# Altium schematic symbol library Connector.SchLib: 365 symbols (part 4 of 4)
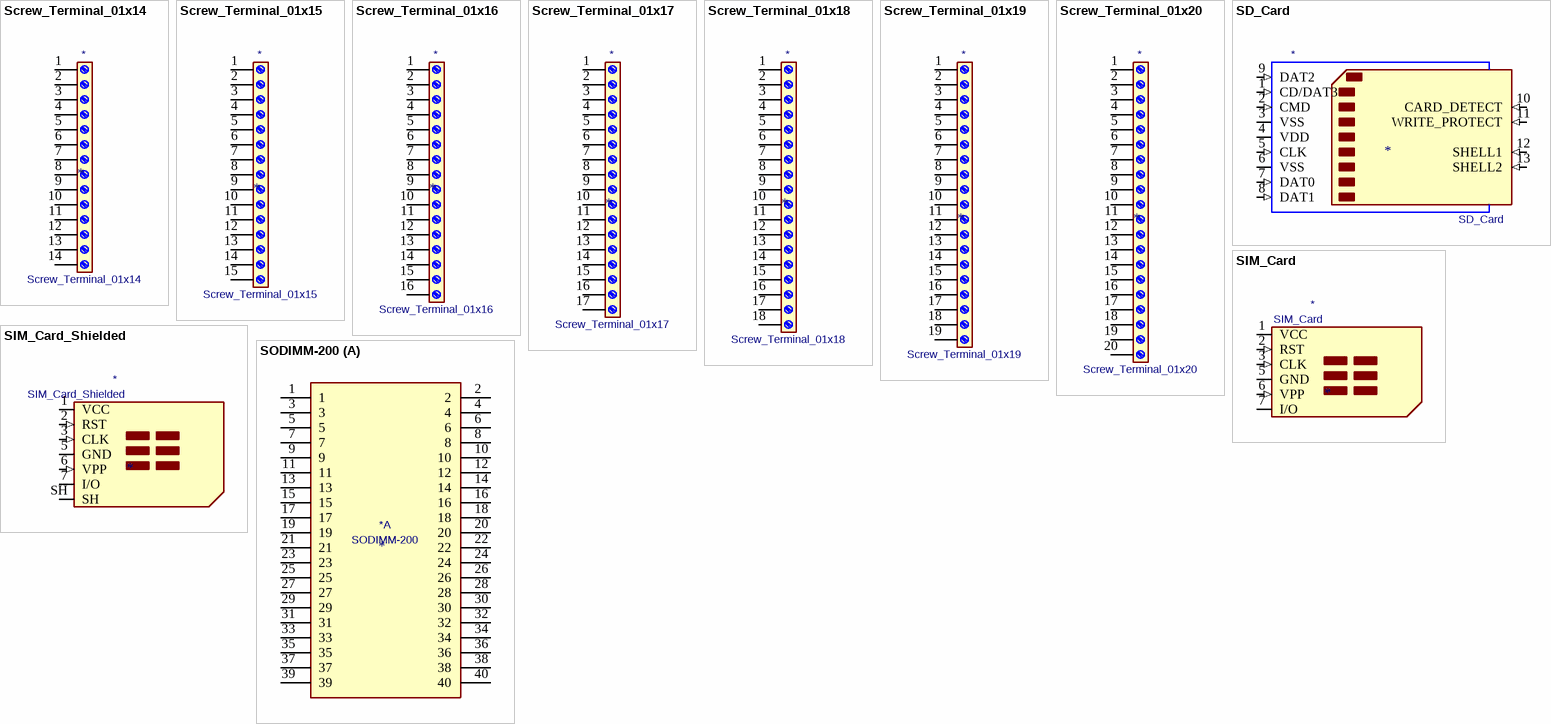
[diagram p17: symbols Screw_Terminal_01x14 to SODIMM-200]

## Screw_Terminal_01x18
designator *  value Screw_Terminal_01x18
ki_keywords: screw terminal; ki_description: Generic screw terminal, single row, 01x18, script generated (kicad-library-utils/schlib/autogen/connector/); ki_fp_filters: TerminalBlock*:*; Supplier: ~
pins: 1 Pin_1, 2 Pin_2, 3 Pin_3, 4 Pin_4, 5 Pin_5, 6 Pin_6, 7 Pin_7, 8 Pin_8, 9 Pin_9, 10 Pin_10, 11 Pin_11, 12 Pin_12, 13 Pin_13, 14 Pin_14, 15 Pin_15, 16 Pin_16, 17 Pin_17, 18 Pin_18

## Screw_Terminal_01x19
designator *  value Screw_Terminal_01x19
ki_keywords: screw terminal; ki_description: Generic screw terminal, single row, 01x19, script generated (kicad-library-utils/schlib/autogen/connector/); ki_fp_filters: TerminalBlock*:*; Supplier: ~
pins: 1 Pin_1, 2 Pin_2, 3 Pin_3, 4 Pin_4, 5 Pin_5, 6 Pin_6, 7 Pin_7, 8 Pin_8, 9 Pin_9, 10 Pin_10, 11 Pin_11, 12 Pin_12, 13 Pin_13, 14 Pin_14, 15 Pin_15, 16 Pin_16, 17 Pin_17, 18 Pin_18, 19 Pin_19

## Screw_Terminal_01x20
designator *  value Screw_Terminal_01x20
ki_keywords: screw terminal; ki_description: Generic screw terminal, single row, 01x20, script generated (kicad-library-utils/schlib/autogen/connector/); ki_fp_filters: TerminalBlock*:*; Supplier: ~
pins: 1 Pin_1, 2 Pin_2, 3 Pin_3, 4 Pin_4, 5 Pin_5, 6 Pin_6, 7 Pin_7, 8 Pin_8, 9 Pin_9, 10 Pin_10, 11 Pin_11, 12 Pin_12, 13 Pin_13, 14 Pin_14, 15 Pin_15, 16 Pin_16, 17 Pin_17, 18 Pin_18, 19 Pin_19, 20 Pin_20

## SD_Card
designator *  value SD_Card
ki_keywords: connector SD; ki_description: SD Card Reader; ki_fp_filters: SD*; Supplier: http://portal.fciconnect.com/Comergent//fci/drawing/10067847.pdf
pins: 1 CD/DAT3 (in), 2 CMD (in), 3 VSS (power), 4 VDD (power), 5 CLK (in), 6 VSS (power), 7 DAT0 (in), 8 DAT1 (in), 9 DAT2 (in), 10 CARD_DETECT (in), 11 WRITE_PROTECT (in), 12 SHELL1 (in), 13 SHELL2 (in)

## SIM_Card
designator *  value SIM_Card
ki_keywords: SIM card UICC; ki_description: SIM Card; ki_fp_filters: *SIM*Card*Holder*; Supplier: ~
pins: 1 VCC (power), 2 RST (in), 3 CLK (in), 5 GND (power), 6 VPP (in), 7 I/O (io)

## SIM_Card_Shielded
designator *  value SIM_Card_Shielded
ki_keywords: SIM card UICC; ki_description: SIM Card; ki_fp_filters: *SIM*Card*Holder*; Supplier: ~
pins: 1 VCC (power), 2 RST (in), 3 CLK (in), 5 GND (power), 6 VPP (in), 7 I/O (io), SH

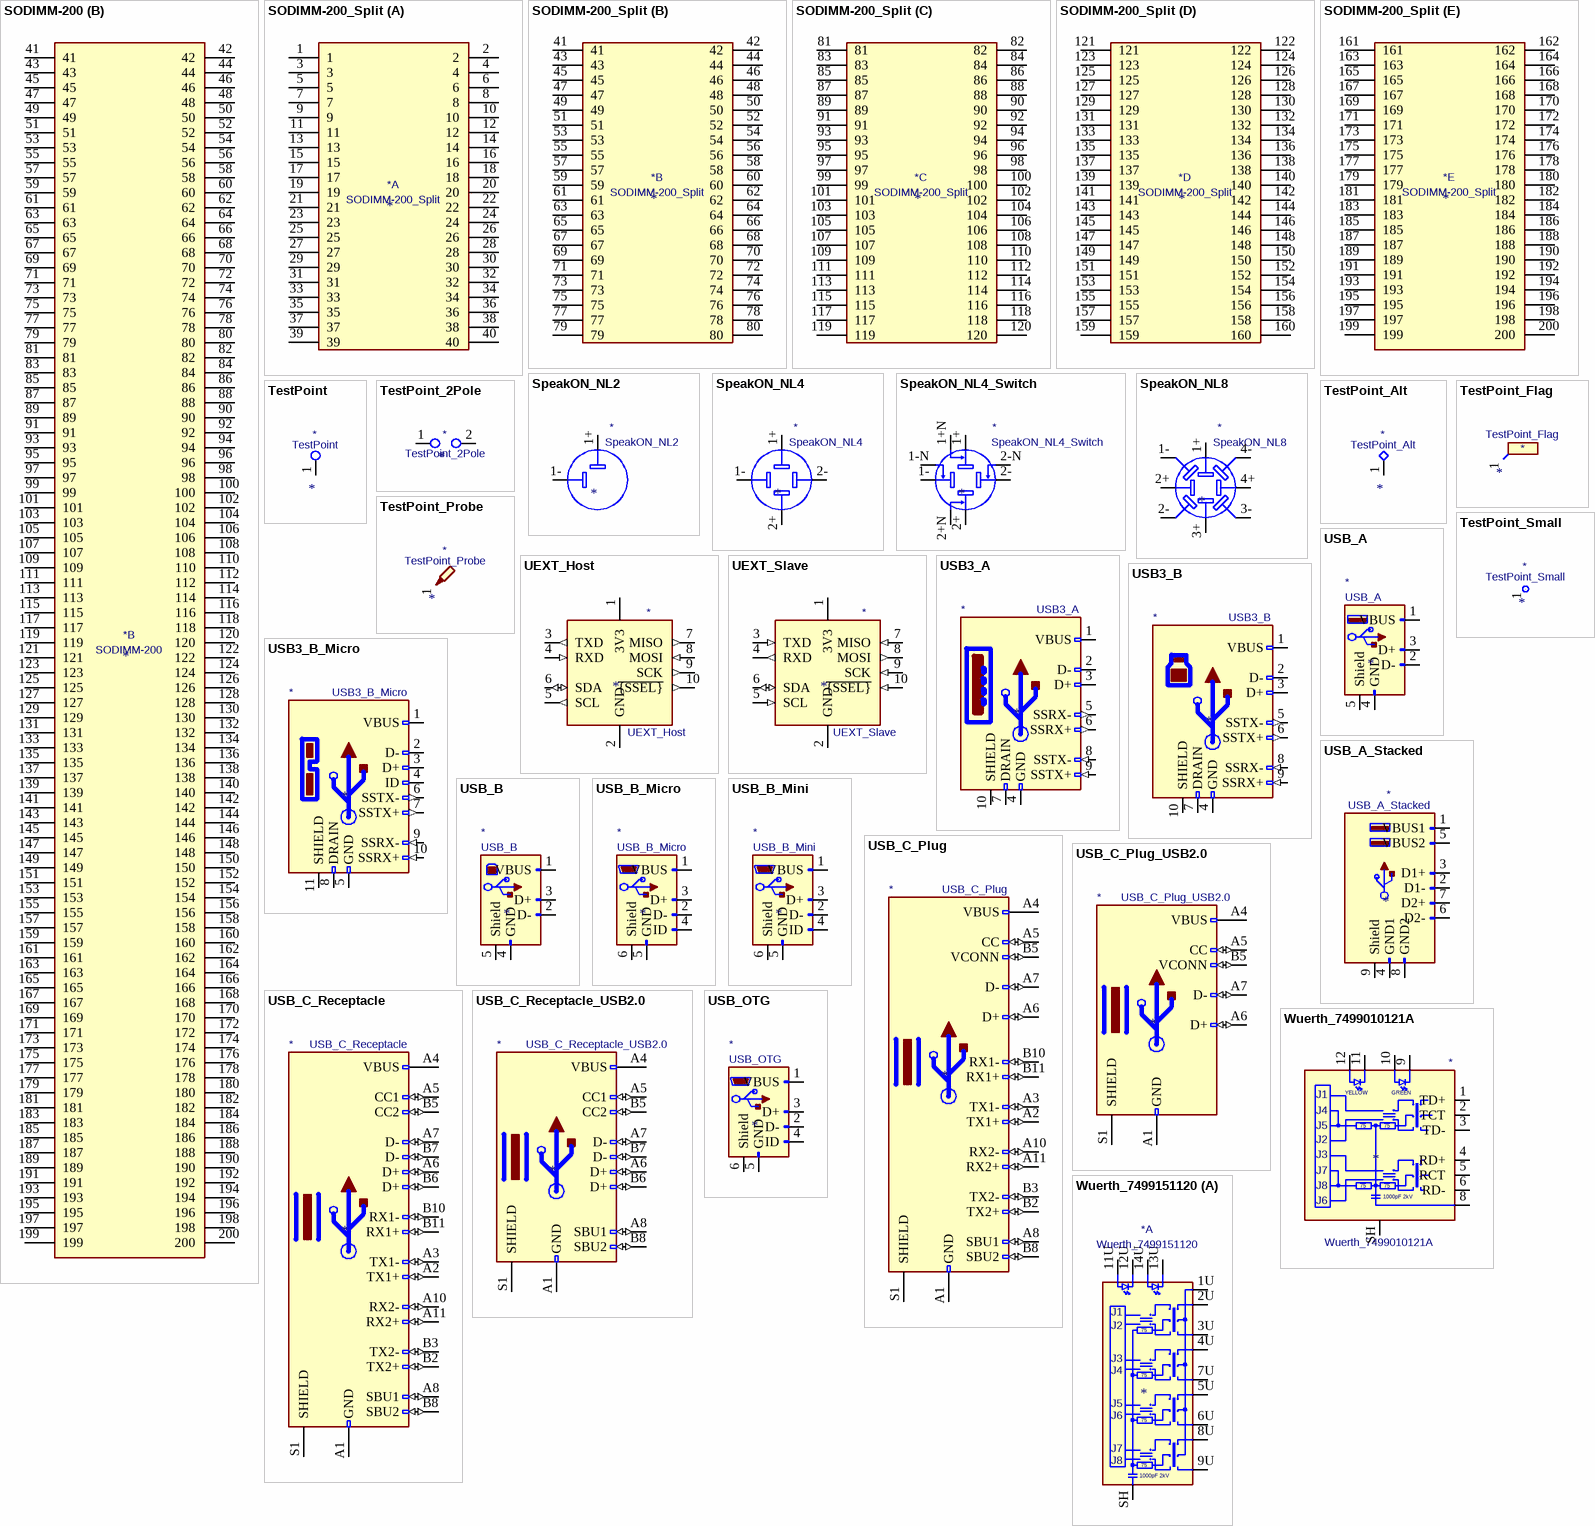
[diagram p13: symbols SODIMM-200 to Wuerth_7499151120]

## SODIMM-200
designator *  value SODIMM-200
ki_keywords: SODIMM SO-DIMM DDR1 DDR2; ki_description: SODIMM 200 Pin socket; ki_fp_filters: *SODIMM*; Supplier: ~
part A pins: 1, 2, 3, 4, 5, 6, 7, 8, 9, 10, 11, 12, 13, 14, 15, 16, 17, 18, 19, 20, 21, 22, 23, 24, 25, 26, 27, 28, 29, 30, 31, 32, 33, 34, 35, 36, 37, 38, 39, 40
part B pins: 41, 42, 43, 44, 45, 46, 47, 48, 49, 50, 51, 52, 53, 54, 55, 56, 57, 58, 59, 60, 61, 62, 63, 64, 65, 66, 67, 68, 69, 70, 71, 72, 73, 74, 75, 76, 77, 78, 79, 80, 81, 82, 83, 84, 85, 86, 87, 88, 89, 90, 91, 92, 93, 94, 95, 96, 97, 98, 99, 100, 101, 102, 103, 104, 105, 106, 107, 108, 109, 110, 111, 112, 113, 114, 115, 116, 117, 118, 119, 120, 121, 122, 123, 124, 125, 126, 127, 128, 129, 130, 131, 132, 133, 134, 135, 136, 137, 138, 139, 140, 141, 142, 143, 144, 145, 146, 147, 148, 149, 150, 151, 152, 153, 154, 155, 156, 157, 158, 159, 160, 161, 162, 163, 164, 165, 166, 167, 168, 169, 170, 171, 172, 173, 174, 175, 176, 177, 178, 179, 180, 181, 182, 183, 184, 185, 186, 187, 188, 189, 190, 191, 192, 193, 194, 195, 196, 197, 198, 199, 200

## SODIMM-200_Split
designator *  value SODIMM-200_Split
ki_keywords: SODIMM SO-DIMM DDR1 DDR2; ki_description: SODIMM 200 Pin socket; ki_fp_filters: *SODIMM*; Supplier: ~
part A pins: 1, 2, 3, 4, 5, 6, 7, 8, 9, 10, 11, 12, 13, 14, 15, 16, 17, 18, 19, 20, 21, 22, 23, 24, 25, 26, 27, 28, 29, 30, 31, 32, 33, 34, 35, 36, 37, 38, 39, 40
part B pins: 41, 42, 43, 44, 45, 46, 47, 48, 49, 50, 51, 52, 53, 54, 55, 56, 57, 58, 59, 60, 61, 62, 63, 64, 65, 66, 67, 68, 69, 70, 71, 72, 73, 74, 75, 76, 77, 78, 79, 80
part C pins: 81, 82, 83, 84, 85, 86, 87, 88, 89, 90, 91, 92, 93, 94, 95, 96, 97, 98, 99, 100, 101, 102, 103, 104, 105, 106, 107, 108, 109, 110, 111, 112, 113, 114, 115, 116, 117, 118, 119, 120
part D pins: 121, 122, 123, 124, 125, 126, 127, 128, 129, 130, 131, 132, 133, 134, 135, 136, 137, 138, 139, 140, 141, 142, 143, 144, 145, 146, 147, 148, 149, 150, 151, 152, 153, 154, 155, 156, 157, 158, 159, 160
part E pins: 161, 162, 163, 164, 165, 166, 167, 168, 169, 170, 171, 172, 173, 174, 175, 176, 177, 178, 179, 180, 181, 182, 183, 184, 185, 186, 187, 188, 189, 190, 191, 192, 193, 194, 195, 196, 197, 198, 199, 200

## SpeakON_NL2
designator *  value SpeakON_NL2
ki_keywords: speakon connector; ki_description: speakON Connector, Male or Female, NL2; ki_fp_filters: Jack*speakON*; Supplier: http://www.neutrik.com/en/speakon/
pins: 1+, 1-

## SpeakON_NL4
designator *  value SpeakON_NL4
ki_keywords: speakon connector; ki_description: speakON Connector, Male or Female, NL4; ki_fp_filters: Jack*speakON*; Supplier: http://www.neutrik.com/en/speakon/
pins: 1+, 1-, 2+, 2-

## SpeakON_NL4_Switch
designator *  value SpeakON_NL4_Switch
ki_keywords: speakon connector; ki_description: speakON Connector, Male or Female, NL4, Switched Pins; ki_fp_filters: Jack*speakON*; Supplier: http://www.neutrik.com/en/speakon/
pins: 1+, 1+N, 1-, 1-N, 2+, 2+N, 2-, 2-N

## SpeakON_NL8
designator *  value SpeakON_NL8
ki_keywords: speakon connector; ki_description: speakON Connector, Male or Female, NL8; ki_fp_filters: Jack*speakON*; Supplier: http://www.neutrik.com/en/speakon/
pins: 1+, 1-, 2+, 2-, 3+, 3-, 4+, 4-

## TestPoint
designator *  value TestPoint
ki_keywords: test point tp; ki_description: test point; ki_fp_filters: Pin* Test*; Supplier: ~
pins: 1

## TestPoint_2Pole
designator *  value TestPoint_2Pole
ki_keywords: point tp; ki_description: 2-polar test point; ki_fp_filters: Pin* Test*; Supplier: ~
pins: 1, 2

## TestPoint_Alt
designator *  value TestPoint_Alt
ki_keywords: test point tp; ki_description: test point (alternative shape); ki_fp_filters: Pin* Test*; Supplier: ~
pins: 1

## TestPoint_Flag
designator *  value TestPoint_Flag
ki_keywords: test point tp; ki_description: test point (alternative flag-style design); ki_fp_filters: Pin* Test*; Supplier: ~
pins: 1

## TestPoint_Probe
designator *  value TestPoint_Probe
ki_keywords: test point tp; ki_description: test point (alternative probe-style design); ki_fp_filters: Pin* Test*; Supplier: ~
pins: 1

## TestPoint_Small
designator *  value TestPoint_Small
ki_keywords: test point tp; ki_description: test point; ki_fp_filters: Pin* Test*; Supplier: ~
pins: 1

## UEXT_Host
designator *  value UEXT_Host
ki_keywords: UEXT, SPI, UART, I2C; ki_description: Universal EXTension (UEXT) is a connector layout which includes power and three serial buses: Asynchronous, I2C, and SPI; ki_fp_filters: *Connector*:2x05*; Supplier: https://www.olimex.com/Products/Modules/UEXT/resources/UEXT_rev_B.pdf
pins: 1 3V3 (power), 2 GND (power), 3 TXD (out), 4 RXD (in), 5 SCL (out), 6 SDA (io), 7 MISO (out), 8 MOSI (in), 9 SCK (out), 10 ~{{SSEL}} (out)

## UEXT_Slave
designator *  value UEXT_Slave
ki_keywords: UEXT, SPI, UART, I2C; ki_description: Universal EXTension (UEXT) is a connector layout which includes power and three serial buses: Asynchronous, I2C, and SPI; ki_fp_filters: *Connector*:2x05*; Supplier: https://www.olimex.com/Products/Modules/UEXT/resources/UEXT_rev_B.pdf
pins: 1 3V3 (power), 2 GND (power), 3 TXD (in), 4 RXD (out), 5 SCL (in), 6 SDA (io), 7 MISO (in), 8 MOSI (out), 9 SCK (in), 10 ~{{SSEL}} (in)

## USB3_A
designator *  value USB3_A
ki_keywords: usb universal serial bus; ki_description: USB 3.0 A connector; Supplier: ~
pins: 1 VBUS (power), 2 D- (io), 3 D+ (io), 4 GND (power), 5 SSRX- (out), 6 SSRX+ (out), 7 DRAIN, 8 SSTX- (in), 9 SSTX+ (in), 10 SHIELD

## USB3_B
designator *  value USB3_B
ki_keywords: usb universal serial bus; ki_description: USB 3.0 B connector; Supplier: ~
pins: 1 VBUS (power), 2 D- (io), 3 D+ (io), 4 GND (power), 5 SSTX- (out), 6 SSTX+ (out), 7 DRAIN, 8 SSRX- (in), 9 SSRX+ (in), 10 SHIELD

## USB3_B_Micro
designator *  value USB3_B_Micro
ki_keywords: usb universal serial bus; ki_description: USB 3.0 Micro-B connector; Supplier: ~
pins: 1 VBUS (power), 2 D- (io), 3 D+ (io), 4 ID, 5 GND (power), 6 SSTX- (out), 7 SSTX+ (out), 8 DRAIN, 9 SSRX- (in), 10 SSRX+ (in), 11 SHIELD

## USB_A
designator *  value USB_A
ki_keywords: connector USB; ki_description: USB Type A connector; ki_fp_filters: USB*; Supplier: ~
pins: 1 VBUS (power), 2 D- (io), 3 D+ (io), 4 GND (power), 5 Shield

## USB_A_Stacked
designator *  value USB_A_Stacked
ki_keywords: connector USB; ki_description: USB Type A connector, stacked; ki_fp_filters: USB*; Supplier: ~
pins: 1 VBUS1 (power), 2 D1- (io), 3 D1+ (io), 4 GND1 (power), 5 VBUS2 (power), 6 D2- (io), 7 D2+ (io), 8 GND2 (power), 9 Shield

## USB_B
designator *  value USB_B
ki_keywords: connector USB; ki_description: USB Type B connector; ki_fp_filters: USB*; Supplier: ~
pins: 1 VBUS (power), 2 D- (io), 3 D+ (io), 4 GND (power), 5 Shield

## USB_B_Micro
designator *  value USB_B_Micro
ki_keywords: connector USB micro; ki_description: USB Micro Type B connector; ki_fp_filters: USB*; Supplier: ~
pins: 1 VBUS (power), 2 D- (io), 3 D+ (io), 4 ID, 5 GND (power), 6 Shield

## USB_B_Mini
designator *  value USB_B_Mini
ki_keywords: connector USB mini; ki_description: USB Mini Type B connector; ki_fp_filters: USB*; Supplier: ~
pins: 1 VBUS (power), 2 D- (io), 3 D+ (io), 4 ID, 5 GND (power), 6 Shield

## USB_C_Plug
designator *  value USB_C_Plug
ki_keywords: usb universal serial bus; ki_description: USB Type-C Plug connector; ki_fp_filters: USB*C*Plug*; Supplier: https://www.usb.org/sites/default/files/documents/usb_type-c.zip
pins: A1 GND, A2 TX1+ (io), A3 TX1- (io), A4 VBUS, A5 CC (io), A6 D+ (io), A7 D- (io), A8 SBU1 (io), A9 VBUS hidden, A10 RX2- (io), A11 RX2+ (io), A12 GND hidden, B1 GND hidden, B2 TX2+ (io), B3 TX2- (io), B4 VBUS hidden, B5 VCONN (io), B8 SBU2 (io), B9 VBUS hidden, B10 RX1- (io), B11 RX1+ (io), B12 GND hidden, S1 SHIELD

## USB_C_Plug_USB2.0
designator *  value USB_C_Plug_USB2.0
ki_keywords: usb universal serial bus type-C USB2.0; ki_description: USB 2.0-only Type-C Plug connector; ki_fp_filters: USB*C*Plug*; Supplier: https://www.usb.org/sites/default/files/documents/usb_type-c.zip
pins: A1 GND, A4 VBUS, A5 CC (io), A6 D+ (io), A7 D- (io), A9 VBUS hidden, A12 GND hidden, B1 GND hidden, B4 VBUS hidden, B5 VCONN (io), B9 VBUS hidden, B12 GND hidden, S1 SHIELD

## USB_C_Receptacle
designator *  value USB_C_Receptacle
ki_keywords: usb universal serial bus type-C full-featured; ki_description: USB Full-Featured Type-C Receptacle connector; ki_fp_filters: USB*C*Receptacle*; Supplier: https://www.usb.org/sites/default/files/documents/usb_type-c.zip
pins: A1 GND, A2 TX1+ (io), A3 TX1- (io), A4 VBUS, A5 CC1 (io), A6 D+ (io), A7 D- (io), A8 SBU1 (io), A9 VBUS hidden, A10 RX2- (io), A11 RX2+ (io), A12 GND hidden, B1 GND hidden, B2 TX2+ (io), B3 TX2- (io), B4 VBUS hidden, B5 CC2 (io), B6 D+ (io), B7 D- (io), B8 SBU2 (io), B9 VBUS hidden, B10 RX1- (io), B11 RX1+ (io), B12 GND hidden, S1 SHIELD

## USB_C_Receptacle_USB2.0
designator *  value USB_C_Receptacle_USB2.0
ki_keywords: usb universal serial bus type-C USB2.0; ki_description: USB 2.0-only Type-C Receptacle connector; ki_fp_filters: USB*C*Receptacle*; Supplier: https://www.usb.org/sites/default/files/documents/usb_type-c.zip
pins: A1 GND, A4 VBUS, A5 CC1 (io), A6 D+ (io), A7 D- (io), A8 SBU1 (io), A9 VBUS hidden, A12 GND hidden, B1 GND hidden, B4 VBUS hidden, B5 CC2 (io), B6 D+ (io), B7 D- (io), B8 SBU2 (io), B9 VBUS hidden, B12 GND hidden, S1 SHIELD

## USB_OTG
designator *  value USB_OTG
ki_keywords: connector USB; ki_description: USB mini/micro connector; ki_fp_filters: USB*; Supplier: ~
pins: 1 VBUS, 2 D- (io), 3 D+ (io), 4 ID, 5 GND, 6 Shield

## Wuerth_7499010121A
designator *  value Wuerth_7499010121A
ki_keywords: lan jack transformer; ki_description: LAN Transformer Jack, RJ45, 10/100 BaseT; ki_fp_filters: RJ45*Wuerth*7499010121A*; Footprint: Connector_RJ:RJ45_Wuerth_7499010121A_Horizontal; Supplier: http://katalog.we-online.de/pbs/datasheet/7499010121A.pdf
footprint RJ45_Wuerth_7499010121A_Horizontal
pins: 1 TD+, 2 TCT, 3 TD-, 4 RD+, 5 RCT, 6 RD-, 8, 9, 10, 11, 12, SH
text: J1; YELLOW; GREEN; J4; J5; 75; J2; J3; J7; J8; J6; 1000pF 2kV

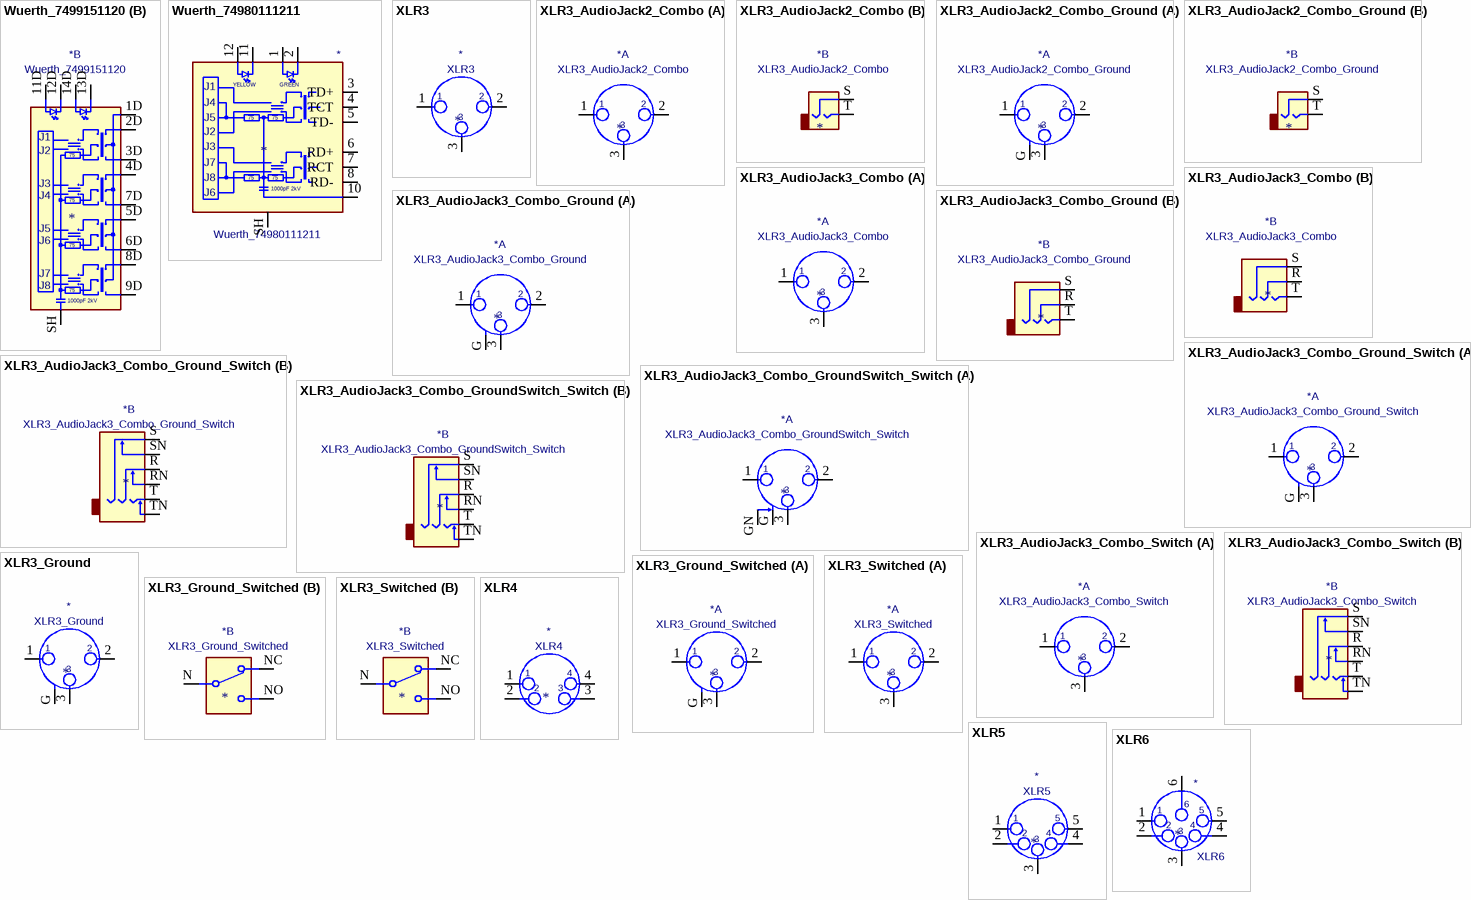
[diagram p14: symbols Wuerth_7499151120 to XLR6]

## Wuerth_7499151120
designator *  value Wuerth_7499151120
ki_keywords: dual lan jack transformer; ki_description: Dual LAN Transformer Jack, RJ45, 10/100/1000 BaseT; ki_fp_filters: RJ45*Wuerth*7499151120*; Footprint: Connector_RJ:RJ45_Wuerth_7499151120_Horizontal; Supplier: http://katalog.we-online.de/pbs/datasheet/7499151120.pdf
footprint RJ45_Wuerth_7499151120_Horizontal
part A pins: 1U, 2U, 3U, 4U, 5U, 6U, 7U, 8U, 9U, 10U (in) hidden, 11U, 12U, 13U, 14U, SH (power)
part B pins: 1D, 2D, 3D, 4D, 5D, 6D, 7D, 8D, 9D, 10D (in) hidden, 11D, 12D, 13D, 14D, SH (power)
part A text: J1; J2; 75; J3; J4; J5; J6; J7; J8; 1000pF 2kV
part B text: J1; J2; 75; J3; J4; J5; J6; J7; J8; 1000pF 2kV

## Wuerth_74980111211
designator *  value Wuerth_74980111211
ki_keywords: lan jack transformer smt; ki_description: LAN Transformer Jack, RJ45, 10/100 BaseT; ki_fp_filters: RJ45*Wuerth*74980111211*; Footprint: Connector_RJ:RJ45_Wuerth_74980111211_Horizontal; Supplier: https://www.we-online.de/katalog/datasheet/74980111211.pdf
footprint RJ45_Wuerth_74980111211_Horizontal
pins: 1, 2, 3 TD+, 4 TCT, 5 TD-, 6 RD+, 7 RCT, 8 RD-, 10, 11, 12, SH
text: J1; YELLOW; GREEN; J4; J5; 75; J2; J3; J7; J8; J6; 1000pF 2kV

## XLR3
designator *  value XLR3
ki_keywords: xlr connector; ki_description: XLR Connector, Male or Female, 3 Pins; ki_fp_filters: Jack*XLR*; Supplier: ~
pins: 1, 2, 3

## XLR3_AudioJack2_Combo
designator *  value XLR3_AudioJack2_Combo
ki_keywords: xlr connector; ki_description: XLR (Male or Female) and Audio Jack (Mono / TS) Combo Connector, Discrete Ground Pin; ki_fp_filters: Jack*XLR*6.35mm*; Supplier: ~
part A pins: 1, 2, 3
part B pins: S, T

## XLR3_AudioJack2_Combo_Ground
designator *  value XLR3_AudioJack2_Combo_Ground
ki_keywords: xlr connector; ki_description: XLR (Male or Female) and Audio Jack (Mono / TS) Combo Connector, Discrete Ground Pin; ki_fp_filters: Jack*XLR*6.35mm*; Supplier: ~
part A pins: 1, 2, 3, G
part B pins: S, T

## XLR3_AudioJack3_Combo
designator *  value XLR3_AudioJack3_Combo
ki_keywords: xlr connector; ki_description: XLR (Male or Female) and Audio Jack (Stereo / TRS) Combo Connector, Discrete Ground Pin; ki_fp_filters: Jack*XLR*6.35mm*; Supplier: ~
part A pins: 1, 2, 3
part B pins: R, S, T

## XLR3_AudioJack3_Combo_Ground
designator *  value XLR3_AudioJack3_Combo_Ground
ki_keywords: xlr connector; ki_description: XLR (Male or Female) and Audio Jack (Stereo / TRS) Combo Connector, Discrete Ground Pin; ki_fp_filters: Jack*XLR*6.35mm*; Supplier: ~
part A pins: 1, 2, 3, G
part B pins: R, S, T

## XLR3_AudioJack3_Combo_Ground_Switch
designator *  value XLR3_AudioJack3_Combo_Ground_Switch
ki_keywords: xlr connector; ki_description: XLR (Male or Female) and Audio Jack (Stereo / TRS, Switched Poles (Normalling)) Combo Connector, Discrete Ground Pin; ki_fp_filters: Jack*XLR*6.35mm*; Supplier: ~
part A pins: 1, 2, 3, G
part B pins: R, RN, S, SN, T, TN

## XLR3_AudioJack3_Combo_GroundSwitch_Switch
designator *  value XLR3_AudioJack3_Combo_GroundSwitch_Switch
ki_keywords: xlr connector; ki_description: XLR (Male or Female) and Audio Jack (Stereo / TRS, Switched Poles (Normalling)) Combo Connector, Discrete Switched Ground Pin; ki_fp_filters: Jack*XLR*6.35mm*; Supplier: ~
part A pins: 1, 2, 3, G, GN
part B pins: R, RN, S, SN, T, TN

## XLR3_AudioJack3_Combo_Switch
designator *  value XLR3_AudioJack3_Combo_Switch
ki_keywords: xlr connector; ki_description: XLR (Male or Female) and Audio Jack (Stereo / TRS, Switched Poles (Normalling)) Combo Connector; ki_fp_filters: Jack*XLR*6.35mm*; Supplier: ~
part A pins: 1, 2, 3
part B pins: R, RN, S, SN, T, TN

## XLR3_Ground
designator *  value XLR3_Ground
ki_keywords: xlr connector; ki_description: XLR Connector, Male or Female, 3 Pins, Discrete Ground Pin; ki_fp_filters: Jack*XLR*; Supplier: ~
pins: 1, 2, 3, G

## XLR3_Ground_Switched
designator *  value XLR3_Ground_Switched
ki_keywords: xlr connector; ki_description: XLR Connector, Male or Female, 3 Pins, Discrete Ground Pin, SPDT Switch; ki_fp_filters: Jack*XLR*; Supplier: ~
part A pins: 1, 2, 3, G
part B pins: N, NC, NO

## XLR3_Switched
designator *  value XLR3_Switched
ki_keywords: xlr connector; ki_description: XLR Connector, Male or Female, 3 Pins, SPDT Switch; ki_fp_filters: Jack*XLR*; Supplier: ~
part A pins: 1, 2, 3
part B pins: N, NC, NO

## XLR4
designator *  value XLR4
ki_keywords: xlr connector; ki_description: XLR Connector, Male or Female, 4 Pins; ki_fp_filters: Jack*XLR*; Supplier: ~
pins: 1, 2, 3, 4

## XLR5
designator *  value XLR5
ki_keywords: xlr connector; ki_description: XLR Connector, Male or Female, 5 Pins; ki_fp_filters: Jack*XLR*; Supplier: ~
pins: 1 P1, 2 P2, 3 P3, 4 P3, 5 P5

## XLR6
designator *  value XLR6
ki_keywords: xlr connector; ki_description: XLR Connector, Male or Female, 6 Pins; ki_fp_filters: Jack*XLR*; Supplier: ~
pins: 1 P1, 2 P2, 3 P3, 4 P3, 5 P5, 6 P6